# Altium schematic symbol library SG_SCH_Amplifiers.SchLib: 19 symbols
Pins are listed as number, name and electrical type; pins without a type are passive.

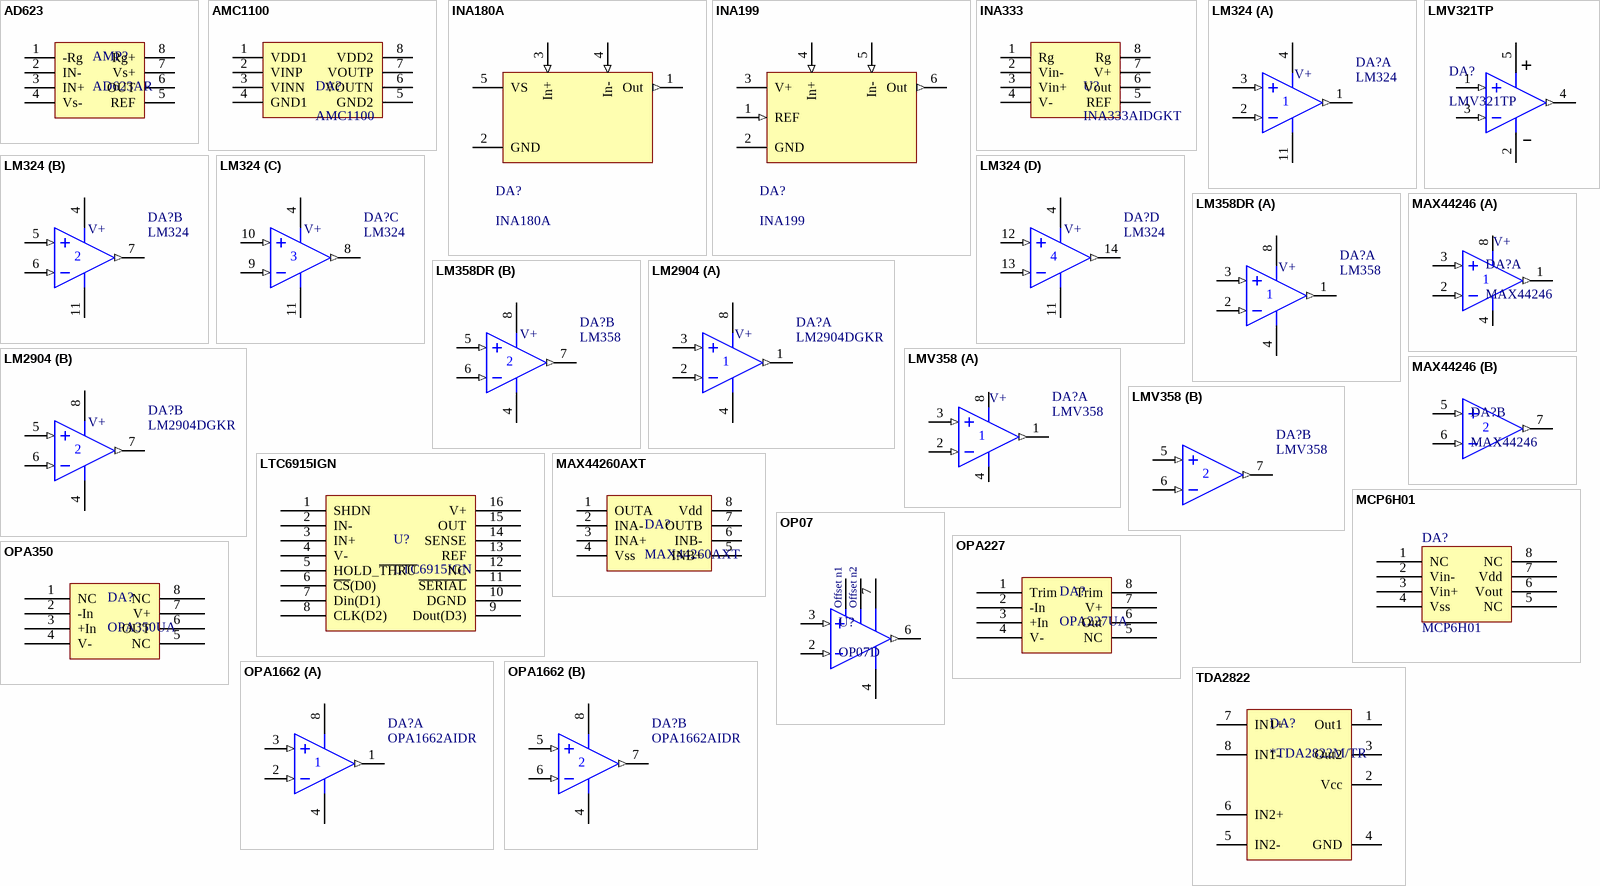
[diagram p0: symbols AD623 to TDA2822]

## AD623
designator AMP?, comment AD623AR
Single-Supply, Rail-to-Rail, Instrumentation Amplifier; Power Supply: 2.7 - 12, +-2.5 - +-6; OriginalSource: AltTab; Order: *; DefaultOrder: AD623AR; LCSC Part: *
footprint SO-8 (Small Outline; 8 Leads; Body Width 3.9 mm; Pitch 1.27 mm)
pins: 1 -Rg, 2 IN-, 3 IN+, 4 Vs-, 5 REF, 6 OUT, 7 Vs+, 8 Rg+

## AMC1100
designator DA?
Fully-Differential Isolation Amplifier; OriginalSource: AltTab; Order: *; LCSC Part: *
footprint SO-8 (Small Outline; 8 Leads; Body Width 3.9 mm; Pitch 1.27 mm)
footprint SOP-8 (Footprint not found)
pins: 1 VDD1, 2 VINP, 3 VINN, 4 GND1, 5 GND2, 6 VOUTN, 7 VOUTP, 8 VDD2

## INA180A
designator DA?
Bidirectional, Low- or High-Side,Voltage-Output,Current-ShuntMonitor; DefaultOrder: INA180A4IDBVT; OriginalSource: MiniSat2_v0.2; Order: *
footprint SOT23-5
pins: 1 Out (out), 2 GND (power), 3 In+ (in), 4 In- (in), 5 VS (power)

## INA199
designator DA?
Bidirectional, Low- or High-Side,Voltage-Output,Current-ShuntMonitor; DefaultOrder: INA199A3DCKT; OriginalSource: ADCSv1_2; Order: *
footprint SOT-323-6 (SC-70) (TSOP, 6-Leads, Body 2.00x1.25mm, Pitch 0.65mm, IPC Medium Density)
pins: 1 REF (in), 2 GND (power), 3 V+ (power), 4 In+ (in), 5 In- (in), 6 Out (out)

## INA333
designator U?, comment INA333AIDGKT
Instrumentation amp; OriginalSource: AltTab; DefaultOrder: INA333AIDGKT; Order: *; LCSC Part: *
pins: 1 Rg, 2 Vin-, 3 Vin+, 4 V-, 5 REF, 6 Vout, 7 V+, 8 Rg

## LM324
designator DA?
Quad Operational Amplifier; OriginalSource: AltTab; Order: *; LCSC Part: *
footprint SO-14
part A pins: 1 OUTa (out), 2 IN- (in), 3 IN+ (in), 4 V+ (power), 11 V- (power)
part B pins: 4 V+ (power), 5 IN+ (in), 6 IN- (in), 7 OUTb (out), 11 V- (power)
part C pins: 4 V+ (power), 8 OUTc (out), 9 IN- (in), 10 IN+ (in), 11 V- (power)
part D pins: 4 V+ (power), 11 V- (power), 12 IN+ (in), 13 IN- (in), 14 OUTd (out)

## LM358DR
designator DA?, comment LM358
Dual Operational Amplifier; OriginalSource: AltTab; Order: *; LCSC Part: *
footprint SO-8 (Small Outline; 8 Leads; Body Width 3.9 mm; Pitch 1.27 mm)
pins on every part: 4 V- (power), 8 V+ (power)
part A pins: 1 OUT (out), 2 IN+ (in), 3 IN- (in)
part B pins: 5 IN- (in), 6 IN+ (in), 7 OUT (out)

## LM2904
designator DA?, comment LM2904DGKR
Dual Operational Amplifier; OriginalSource: MiniSat_MPPT; Supply Voltage: 3-26V; Order: *; DefaultOrder: LM2904DGKR; LCSC Part: *
footprint VSSOP-8 (TSOP, 8-Leads, Body 3,00x3,00mm, Pitch 0,65mm, IPC Medium Density)
pins on every part: 4 V- (power), 8 V+ (power)
part A pins: 1 OUT (out), 2 IN+ (in), 3 IN- (in)
part B pins: 5 IN- (in), 6 IN+ (in), 7 OUT (out)

## LMV321TP
designator DA?
Single Operational Amplifier; OriginalSource: AltTab; Order: *; LCSC Part: *
footprint SOT23-5L (SOT23, 5-Leads, Body 2,90x2,80mm, Pitch 0,95mm, IPC High Density)
pins: 1 IN- (in), 2 V- (power), 3 IN+ (in), 4 OUT (out), 5 V+ (power)

## LMV358
designator DA?
Dual Operational Amplifier; DefaultOrder: LMV358IDR; OriginalSource: AltTab; Order: *; LCSC Part: *
footprint SO-8 (Small Outline; 8 Leads; Body Width 3.9 mm; Pitch 1.27 mm)
part A pins: 1 OUT (out), 2 IN+ (in), 3 IN- (in), 4 GND, 8 VCC
part B pins: 5 IN- (in), 6 IN+ (in), 7 OUT (out)
part A text: V+

## LTC6915IGN
designator U?
OriginalSource: AltTab; Order: *; LCSC Part: *
footprint TSSOP16 (Footprint not found)
pins: 1 SHDN, 2 IN-, 3 IN+, 4 V-, 5 HOLD_~{THRU}, 6 ~{CS}(D0), 7 Din(D1), 8 CLK(D2), 9 Dout(D3), 10 DGND, 11 ~{SERIAL}, 12 NC, 13 REF, 14 SENSE, 15 OUT, 16 V+

## MAX44246
designator DA?
Low-noise, precision, dual op amplifier; DefaultOrder: MAX44246AUA+; OriginalSource: AltTab; Order: *; LCSC Part: *
footprint uSOP8 (Footprint not found)
part A pins: 1 OUT (out), 2 IN+ (in), 3 IN- (in), 4 GND, 8 VCC
part B pins: 5 IN- (in), 6 IN+ (in), 7 OUT (out)
part A text: V+

## MAX44260AXT
designator DA?
Прецизионный малошумящий ОУ; OriginalSource: AltTab; Order: *; DefaultOrder: MAX44260AXT; LCSC Part: *
footprint SC70-6-5.3 (Footprint not found)
pins: 1 OUTA, 2 INA-, 3 INA+, 4 Vss, 5 INB+, 6 INB-, 7 OUTB, 8 Vdd

## MCP6H01
designator DA?
1.2 MHz, 16V Op Amps; DefaultOrder: MCP6H01-E/SN; OriginalSource: AltTab; Order: *; LCSC Part: *
footprint SO-8 (Footprint not found)
pins: 1 NC, 2 Vin-, 3 Vin+, 4 Vss, 5 NC, 6 Vout, 7 Vdd, 8 NC

## OP07
designator U?, comment OP07D
Pret. Op Amp; OriginalSource: AltTab; Order: *; DefaultOrder: OP07D; LCSC Part: *
footprint SO8 (Footprint not found)
pins: 1 Offset n1, 2 IN+ (in), 3 IN- (in), 4 V- (power), 6 OUT (out), 7 V+ (power), 8 Offset n2

## OPA227
designator DA?, comment OPA227UA
OriginalSource: AltTab; Order: *; LCSC Part: *
footprint SO8 (SOIC, 8-Leads, Body 4,9x3,9mm (max), Pitch 1,27mm, IPC Medium Density)
pins: 1 Trim, 2 -In, 3 +In, 4 V-, 5 NC, 6 Out, 7 V+, 8 Trim

## OPA350
designator DA?, comment OPA350UA
OriginalSource: AltTab; Order: *; LCSC Part: *
footprint SO8 (SOIC, 8-Leads, Body 4,9x3,9mm (max), Pitch 1,27mm, IPC Medium Density)
pins: 1 NC, 2 -In, 3 +In, 4 V-, 5 NC, 6 OUT, 7 V+, 8 NC

## OPA1662
designator DA?, comment OPA1662AIDR
Dual Operational Amplifier; OriginalSource: AltTab; Order: *; DefaultOrder: OPA1662AIDR; LCSC Part: *
footprint SO8 (Small Outline; 8 Leads; Body Width 3.9 mm; Pitch 1.27 mm)
pins on every part: 4 V- (power), 8 V+ (power)
part A pins: 1 OUT (out), 2 IN+ (in), 3 IN- (in)
part B pins: 5 IN- (in), 6 IN+ (in), 7 OUT (out)

## TDA2822
designator DA?, comment *TDA2822M/TR
DUAL LOW-VOLTAGE POWER AMPLIFIER; Order: *TDA2822M/TR
footprint SO-8 (Small Outline; 8 Leads; Body Width 3.9 mm; Pitch 1.27 mm)
pins: 1 Out1, 2 Vcc, 3 Out2, 4 GND, 5 IN2-, 6 IN2+, 7 IN1+, 8 IN1-